# Altium integrated library Infineon_Power_Supply_Voltage_Regulator.IntLib: 346 symbols (part 3 of 16)
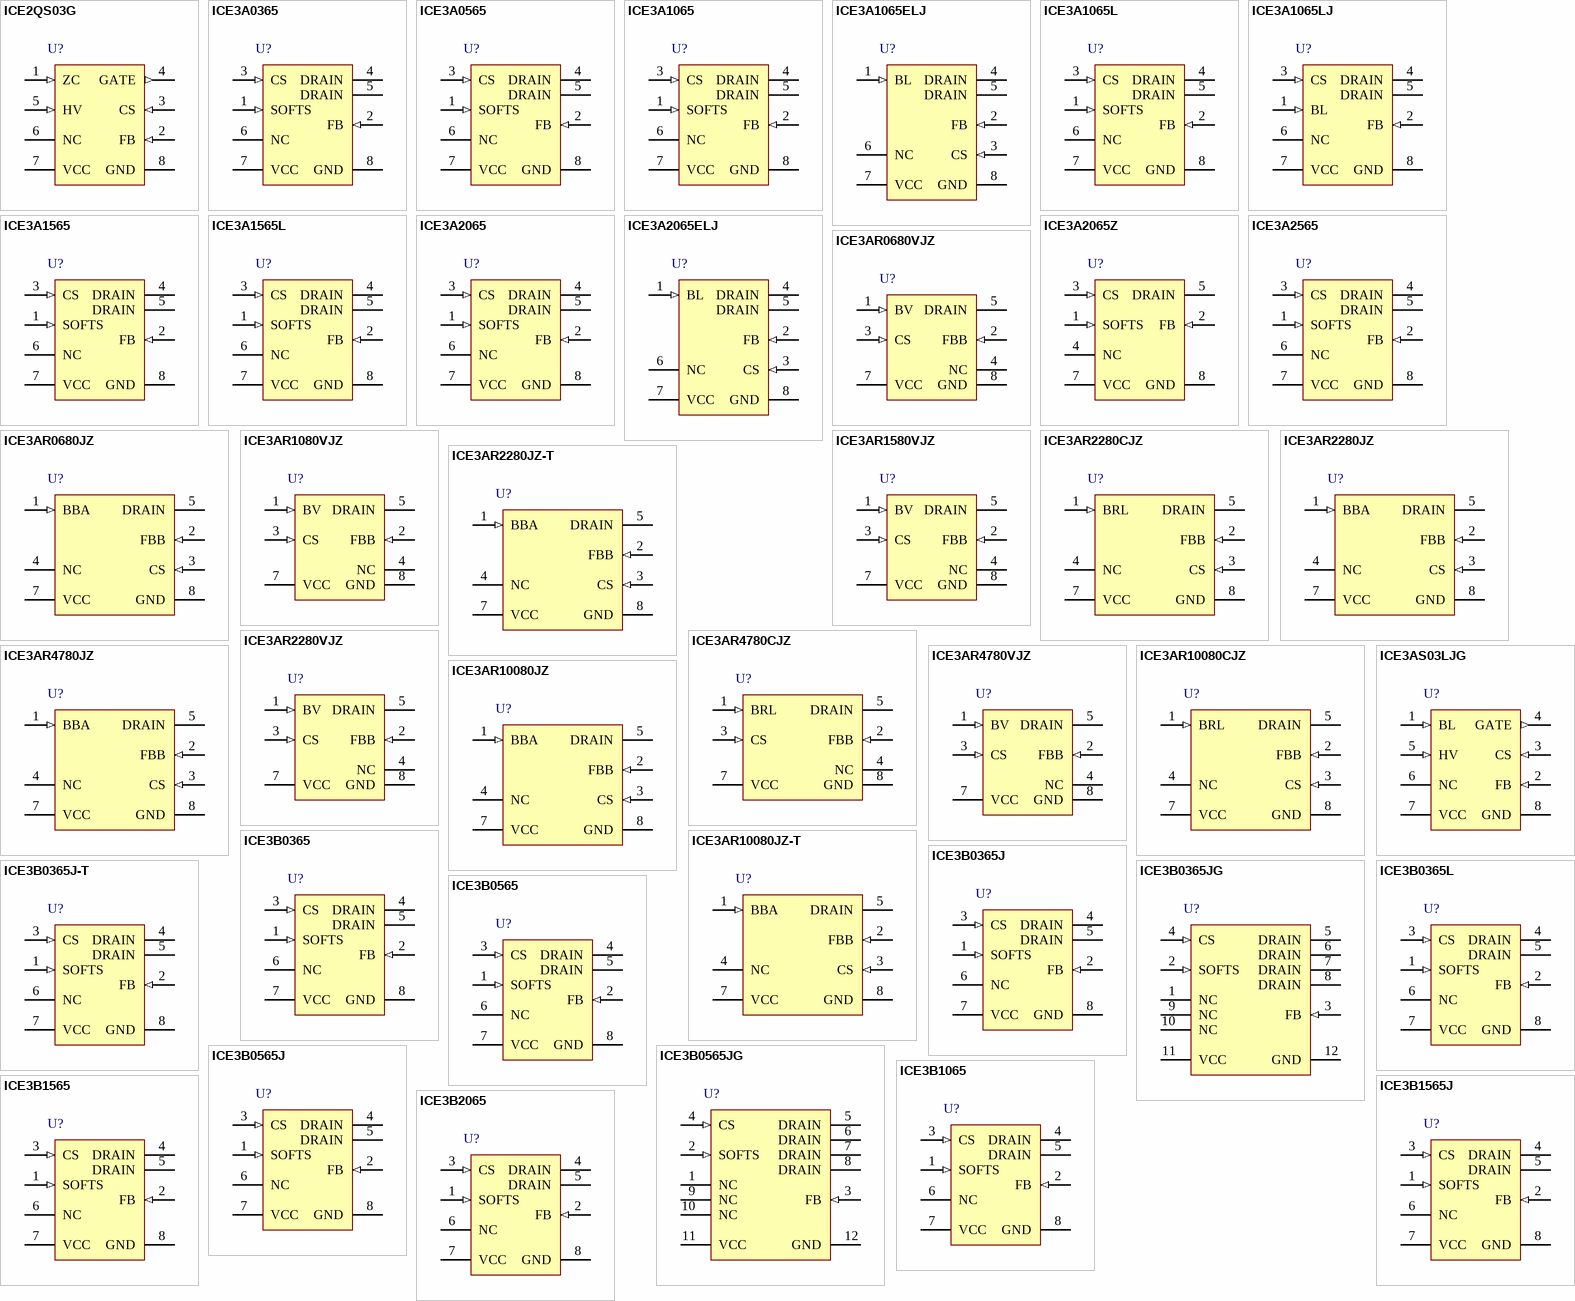
[diagram p11: symbols ICE2QS03G to ICE3B2065]

## ICE3AR2280CJZ
designator U?
Off-Line SMPS Current Mode Controller with Integrated 800 V CoolMOS and Startup Cell (Brownout & CCM), 10.5 to 24.7 V, -25 to 130 degC, PG-DIP-7-1, Tube, Green; Manufacturer: Infineon; PartNumber: ICE3AR2280CJZ; ESD Protection (max): 2 kV; Frequency ( f ) Range: 100 kHz fixed; Green Product: Lead Free; ICC (typ): 3.4 mA; ID (max): 1.5 A; PIN (max): 28 W; RDS (on) (typ): 2.26 Ohm; RthJA (max): 96 K/W; tf (typ): 30 ns; VCC (max): 24.7 V; VCC (min): 10.5 V; VDS (max): 800 V; DatasheetVersion: Rev. 2.0; PackageVersion: Rev. 02, 07/2011; PackageReference: PG-DIP-7-1; PackageDescription: 7-Pin Plastic (Green) Dual In-Line Package, 9.44 x 6.35 mm Body, 2.54 mm Pitch; tr (typ): 30 ns; Mounting Technology: Through Hole; ComponentLink1Description: Manufacturer URL; ComponentLink1URL: http://www.infineon.com/; ComponentLink2Description: Datasheet; ComponentLink2URL: http://www.infineon.com/dgdl/Datasheet_ICE3AR2280CJZ_V20_11Jan2012.pdf?folderId=db3a30431f848401011fcbf221ff04c3&fileId=db3a3043345a30bc013489117f87344a; ComponentLink3Description: Package Specification; ComponentLink3URL: http://www.infineon.com/dgdl/Datasheet_ICE3BR0680JZ_V21a_11Jan2012.pdf?folderId=db3a30431f848401011fcbf221ff04c3&fileId=db3a304329a0f6ee0129e8b5bf735b64
footprint INF-PG-DIP-7-1_A (DIP, 7-Leads, Body 9.44x6.35mm, Pitch 2.54mm)
pins: 1 BRL (in) "Brownout, fast AC Reset & Latch enable", 2 FBB (in) "Feedback & Burst entry/exit control", 3 CS (in) "Current Sense/800V CoolMOS(R) Source", 4 NC "not connected", 5 DRAIN (power) "800V CoolMOS(R) Drain", 7 VCC (power) "Controller Supply Voltage", 8 GND (power) "Controller Ground"

## ICE3AR2280JZ
designator U?
Off-Line SMPS Current Mode Controller with Integrated 800 V CoolMOS and Startup Cell (Brownout & Frequency Jitter), 10.5 to 25 V, -25 to 130 degC, PG-DIP-7-1, Tube, Green; Manufacturer: Infineon; PartNumber: ICE3AR2280JZ; ESD Protection (max): 2 kV; Frequency ( f ) Range: 100 kHz (fixed); Green: TRUE; Green Product: Lead Free; ICC (typ): 3.4 mA; ID (max): 1.5 A; PIN (max): 28 W; RDS (on) (typ): 2.26 Ohm; RthJA (max): 96 K/W; tf (typ): 30 ns; VCC (max): 25 V; VCC (min): 10.5 V; VDS (max): 800 V; DatasheetVersion: Rev. 2.1a; PackageVersion: Rev. 02, 07/2011; PackageReference: PG-DIP-7-1; PackageDescription: 7-Pin Plastic (Green) Dual In-Line Package, 9.44 x 6.35 mm Body, 2.54 mm Pitch; Supplier 1: Mouser; Supplier Part Number 1: 726-ICE3AR2280JZ; tr (typ): 30 ns; Mounting Technology: Through Hole; ComponentLink1Description: Manufacturer URL; ComponentLink1URL: http://www.infineon.com/; ComponentLink2Description: Datasheet; ComponentLink2URL: http://www.infineon.com/dgdl/Datasheet_ICE3AR2280JZ_V21a_11Jan2012.pdf?folderId=db3a304412b407950112b4182a3d24f8&fileId=db3a3043284aacd801288a42141f2ad1; ComponentLink3Description: Package Specification; ComponentLink3URL: http://www.infineon.com/dgdl/Datasheet_ICE3BR0680JZ_V21a_11Jan2012.pdf?folderId=db3a30431f848401011fcbf221ff04c3&fileId=db3a304329a0f6ee0129e8b5bf735b64
footprint INF-PG-DIP-7-1_A (DIP, 7-Leads, Body 9.44x6.35mm, Pitch 2.54mm)
pins: 1 BBA (in) "Brownout, extended Blanking time & Auto-restart enable", 2 FBB (in) "Feedback & Burst entry/exit control", 3 CS (in) "Current Sense/800V CoolMOS(R) Source", 4 NC "not connected", 5 DRAIN (power) "800V CoolMOS(R) Drain", 7 VCC (power) "Controller Supply Voltage", 8 GND (power) "Controller Ground"

## ICE3AR2280JZ-T
designator U?
Off-Line SMPS Current Mode Controller, -40 to 130 degC, PG-DIP-7-1, Tube, Green; Manufacturer: Infineon; PartNumber: ICE3AR2280JZ-T; Green: TRUE; ID (max): 1.5 A; PIN (max): 28 W; RDS (on) (typ): 2.26 Ohm; VCC (max): 25 V; VCC (min): 10.5 V; VDS (max): 800 V; DatasheetVersion: Rev. 2.0; PackageVersion: Rev. 02, 07/2011; PackageReference: PG-DIP-7-1; PackageDescription: 7-Pin Plastic (Green) Dual In-Line Package, 9.44 x 6.35 mm Body, 2.54 mm Pitch; Supplier 1: Mouser; Supplier Part Number 1: N/A; Halogen-free: TRUE; Packing: Tube; Mounting Technology: Through Hole; ComponentLink1Description: Manufacturer URL; ComponentLink1URL: http://www.infineon.com/; ComponentLink2Description: Datasheet; ComponentLink2URL: http://www.infineon.com/dgdl/Datasheet_ICE3AR2280JZ-T_V2.0_20Mar2013.pdf?folderId=db3a30433dd36866013dd41eec4723fc&fileId=db3a30433dd42dcf013dd4f9421f01ca; ComponentLink3Description: Package Specification; ComponentLink3URL: http://www.infineon.com/dgdl/Datasheet_ICE3BR0680JZ_V21a_11Jan2012.pdf?folderId=db3a30431f848401011fcbf221ff04c3&fileId=db3a304329a0f6ee0129e8b5bf735b64
footprint INF-PG-DIP-7-1_A (DIP, 7-Leads, Body 9.44x6.35mm, Pitch 2.54mm)
pins: 1 BBA (in) "Brownout, extended Blanking time & Auto-restart enable", 2 FBB (in) "Feedback & Burst entry/exit control", 3 CS (in) "Current Sense/800V CoolMOS(R) Source", 4 NC "not connected", 5 DRAIN (power) "800V CoolMOS(R) Drain", 7 VCC (power) "Controller Supply Voltage", 8 GND (power) "Controller Ground"

## ICE3AR2280VJZ
designator U?
Off-Line SMPS Current Mode Controller with Integrated 800 V CoolMOS(TM) and Startup Cell (Input OVP & Frequency Jitter), 10.5 to 25 V, -40 to 130 degC, PG-DIP-7, Tube, Green; Manufacturer: Infineon; PartNumber: ICE3AR2280VJZ; ESD Protection (max): 2 kV; Frequency ( f ) Range: 100 kHz Fixed; Green: TRUE; Green Product: Lead Free; ICC (typ): 3.4 mA; PIN (max): 28 W; RthJA (max): 96 K/W; tf (typ): 30 ns; VCC (max): 25 V; VCC (min): 10.5 V; VDS (max): 800 V; DatasheetVersion: Rev. 2.1; PackageVersion: Rev. 02, 07/2011; PackageReference: PG-DIP-7-1; PackageDescription: 7-Pin Plastic (Green) Dual In-Line Package, 9.44 x 6.35 mm Body, 2.54 mm Pitch; Supplier 1: Mouser; Supplier Part Number 1: N/A; Halogen-free: TRUE; Mounting: THT; Packing: Tube; Tolerance: TRUE; tr (typ): 30 ns; Mounting Technology: Through Hole; ComponentLink1Description: Manufacturer URL; ComponentLink1URL: http://www.infineon.com/; ComponentLink2Description: Datasheet; ComponentLink2URL: http://www.infineon.com/dgdl?folderId=db3a30433dd36866013dd41eec4723fc&fileId=db3a304341e0aed00141ffe590b53061; ComponentLink3Description: Package Specification; ComponentLink3URL: http://www.infineon.com/dgdl/Datasheet_ICE2QR4765Z_V21_20110830.pdf?folderId=db3a304412b407950112b408e8c90004&fileId=db3a304330046413013048a5435f51d2
footprint INF-PG-DIP-7-1_A (DIP, 7-Leads, Body 9.44x6.35mm, Pitch 2.54mm)
pins: 1 BV (in) "extended Blanking time and input OVP", 2 FBB (in) "Feedback & Burst entry/exit control", 3 CS (in) "Current Sense/ 800V CoolMOS(TM) Source", 4 NC "not connected", 5 DRAIN (power) "800V CoolMOS(TM) Drain", 7 VCC (power) "Controller Supply Voltage", 8 GND (power) "Controller Ground"

## ICE3AR4780CJZ
designator U?
Off-Line SMPS Current Mode Controller with Integrated 800 V CoolMOS(TM) and Startup Cell (Brownout & CCM), 10.5 to 24.7 V, -25 to 130 degC, PG-DIP-7, Tube, Green; Manufacturer: Infineon; PartNumber: ICE3AR4780CJZ; ESD Protection (max): 2 kV; Frequency ( f ) Range: 100 kHz Fixed; Green: TRUE; Green Product: Lead Free; ICC (typ): 3.4 mA; PIN (max): 20 W; RthJA (max): 96 K/W; tf (typ): 30 ns; VCC (max): 24.7; VCC (min): 10.5 V; VDS (max): 800 V; DatasheetVersion: Rev. 2.0; PackageVersion: Rev. 02, 07/2011; PackageReference: PG-DIP-7-1; PackageDescription: 7-Pin Plastic (Green) Dual In-Line Package, 9.44 x 6.35 mm Body, 2.54 mm Pitch; Halogen-free: TRUE; Mounting: THT; Packing: Tube; Tolerance: TRUE; tr (typ): 30 ns; Mounting Technology: Through Hole; ComponentLink1Description: Manufacturer URL; ComponentLink1URL: http://www.infineon.com/; ComponentLink2Description: Datasheet; ComponentLink2URL: http://www.infineon.com/dgdl?folderId=db3a30433dd36866013dd41eec4723fc&fileId=db3a30433ff796e701401495529c4444; ComponentLink3Description: Package Specification; ComponentLink3URL: http://www.infineon.com/dgdl/Datasheet_ICE2QR4765Z_V21_20110830.pdf?folderId=db3a304412b407950112b408e8c90004&fileId=db3a304330046413013048a5435f51d2
footprint INF-PG-DIP-7-1_A (DIP, 7-Leads, Body 9.44x6.35mm, Pitch 2.54mm)
pins: 1 BRL (in) "Brownout, fast AC Reset and Latch enable", 2 FBB (in) "Feedback and Burst entry/exit control", 3 CS (in) "Current Sense/ 800V CoolMOS(R) Source", 4 NC "not connected", 5 DRAIN (power) "800V CoolMOS(R) Drain", 7 VCC (power) "Controller Supply Voltage", 8 GND (power) "Controller Ground"

## ICE3AR4780JZ
designator U?
Off-Line SMPS Current Mode Controller with Integrated 800 V CoolMOS and Startup Cell (Brownout & Frequency Jitter), 10.5 to 25 V, -25 to 130 degC, PG-DIP-7-1; Manufacturer: Infineon; PartNumber: ICE3AR4780JZ; ESD Protection (max): 2 kV; Frequency ( f ) Range: 100 Hz fixed; Green Product: Lead Free; ICC (typ): 3 mA; ID (max): 0.58 A; PIN (max): 20 W; RDS (on) (typ): 4.7 Ohm; RthJA (max): 96 K/W; tf (typ): 30 ns; VCC (max): 25 V; VCC (min): 10.5 V; VDS (max): 800 V; DatasheetVersion: Rev. 2.1a; PackageVersion: Rev. 02, 07/2011; PackageReference: PG-DIP-7-1; PackageDescription: 7-Pin Plastic (Green) Dual In-Line Package, 9.44 x 6.35 mm Body, 2.54 mm Pitch; Supplier 1: Mouser; Supplier Part Number 1: 726-ICE3AR4780JZ; tr (typ): 30 ns; Mounting Technology: Through Hole; ComponentLink1Description: Manufacturer URL; ComponentLink1URL: http://www.infineon.com/; ComponentLink2Description: Datasheet; ComponentLink2URL: http://www.infineon.com/dgdl/Datasheet_ICE3AR4780JZ_V21a_11Jan2012.pdf?folderId=db3a304412b407950112b408e8c90004&fileId=db3a30432e5d3808012e6ef78ce45fc0; ComponentLink3Description: Package Specification; ComponentLink3URL: http://www.infineon.com/dgdl/Datasheet_ICE3BR0680JZ_V21a_11Jan2012.pdf?folderId=db3a30431f848401011fcbf221ff04c3&fileId=db3a304329a0f6ee0129e8b5bf735b64
footprint INF-PG-DIP-7-1_A (DIP, 7-Leads, Body 9.44x6.35mm, Pitch 2.54mm)
pins: 1 BBA (in) "Brownout, extended Blanking time & Auto-restart enable", 2 FBB (in) "Feedback & Burst entry/exit control", 3 CS (in) "Current Sense/800V CoolMOS(R) Source", 4 NC "not connected", 5 DRAIN (power) "800V CoolMOS(R) Drain", 7 VCC (power) "Controller Supply Voltage", 8 GND (power) "Controller Ground"

## ICE3AR4780VJZ
designator U?
Off-Line SMPS Current Mode Controller with Integrated 800 V CoolMOS(TM) and Startup Cell (Input OVP & Frequency Jitter), 10.5 to 25 V, -40 to 130 degC, PG-DIP-7, Tube, Green; Manufacturer: Infineon; PartNumber: ICE3AR4780VJZ; ESD Protection (max): 2 kV; Frequency ( f ) Range: 100 kHz Fixed; Green: TRUE; Green Product: Lead Free; ICC (typ): 3 mA; PIN (max): 20 W; RthJA (max): 96 K/W; tf (typ): 30 ns; VCC (max): 25 V; VCC (min): 10.5 V; VDS (max): 800 V; DatasheetVersion: Rev. 2.1; PackageVersion: Rev. 02, 07/2011; PackageReference: PG-DIP-7-1; PackageDescription: 7-Pin Plastic (Green) Dual In-Line Package, 9.44 x 6.35 mm Body, 2.54 mm Pitch; Supplier 1: Mouser; Supplier Part Number 1: N/A; Halogen-free: TRUE; Mounting: THT; Packing: Tube; Tolerance: TRUE; tr (typ): 30 ns; Mounting Technology: Through Hole; ComponentLink1Description: Manufacturer URL; ComponentLink1URL: http://www.infineon.com/; ComponentLink2Description: Datasheet; ComponentLink2URL: http://www.infineon.com/dgdl?folderId=db3a30433dd36866013dd41eec4723fc&fileId=db3a304341e0aed00141ffe81b683068; ComponentLink3Description: Package Specification; ComponentLink3URL: http://www.infineon.com/dgdl/Datasheet_ICE2QR4765Z_V21_20110830.pdf?folderId=db3a304412b407950112b408e8c90004&fileId=db3a304330046413013048a5435f51d2
footprint INF-PG-DIP-7-1_A (DIP, 7-Leads, Body 9.44x6.35mm, Pitch 2.54mm)
pins: 1 BV (in) "extended Blanking time and input OVP", 2 FBB (in) "Feedback & Burst entry/exit control", 3 CS (in) "Current Sense/ 800V CoolMOS(TM) Source", 4 NC "not connected", 5 DRAIN (power) "800V CoolMOS(TM) Drain", 7 VCC (power) "Controller Supply Voltage", 8 GND (power) "Controller Ground"

## ICE3AR10080CJZ
designator U?
Off-Line SMPS Current Mode Controller with Integrated 800 V CoolMOS and Startup Cell (Brownout & CCM), 10.5 to 24.7 V, -25 to 130 degC, PG-DIP-7-1, Tube, Green; Manufacturer: Infineon; PartNumber: ICE3AR10080CJZ; ESD Protection (max): 2 kV; Frequency ( f ) Range: 100 kHz fixed; Green Product: Lead Free; ICC (typ): 3 mA; ID (max): 0.44 A; PIN (max): 15 W; RDS (on) (typ): 10 Ohm; RthJA (max): 96 K/W; tf (typ): 30 ns; VCC (max): 24.7 V; VCC (min): 10.5 V; VDS (max): 800 V; DatasheetVersion: Rev. 2.0; PackageVersion: Rev. 02, 07/2011; PackageReference: PG-DIP-7-1; PackageDescription: 7-Pin Plastic (Green) Dual In-Line Package, 9.44 x 6.35 mm Body, 2.54 mm Pitch; tr (typ): 30 ns; Mounting Technology: Through Hole; ComponentLink1Description: Manufacturer URL; ComponentLink1URL: http://www.infineon.com/; ComponentLink2Description: Datasheet; ComponentLink2URL: http://www.infineon.com/dgdl/Datasheet_ICE3AR10080CJZ_V20_11Jan2012.pdf?folderId=db3a30431f848401011fcbf221ff04c3&fileId=db3a3043345a30bc0134891d7624344f; ComponentLink3Description: Package Specification; ComponentLink3URL: http://www.infineon.com/dgdl/Datasheet_ICE3BR0680JZ_V21a_11Jan2012.pdf?folderId=db3a30431f848401011fcbf221ff04c3&fileId=db3a304329a0f6ee0129e8b5bf735b64
footprint INF-PG-DIP-7-1_A (DIP, 7-Leads, Body 9.44x6.35mm, Pitch 2.54mm)
pins: 1 BRL (in) "Brownout, fast AC Reset & Latch enable", 2 FBB (in) "Feedback & Burst entry/exit control", 3 CS (in) "Current Sense/800V CoolMOS(R) Source", 4 NC "not connected", 5 DRAIN (power) "800V CoolMOS(R) Drain", 7 VCC (power) "Controller Supply Voltage", 8 GND (power) "Controller Ground"

## ICE3AR10080JZ
designator U?
Off-Line SMPS Current Mode Controller with Integrated 800 V CoolMOS and Startup Cell (Brownout & Frequency Jitter), 10.5 to 25 V, -25 to 130 degC, PG-DIP-7-1, Tube, Green; Manufacturer: Infineon; PartNumber: ICE3AR10080JZ; ESD Protection (max): 2 kV; Frequency ( f ) Range: 100 kHz fixed; Green: TRUE; Green Product: Lead Free; ICC (typ): 3 mA; ID (max): 0.44 A; PIN (max): 15 W; RDS (on) (typ): 10 Ohm; RthJA (max): 96 K/W; tf (typ): 30 ns; VCC (max): 25 V; VCC (min): 10.5 V; VDS (max): 800 V; DatasheetVersion: Rev. 2.2a; PackageVersion: Rev. 02, 07/2011; PackageReference: PG-DIP-7-1; PackageDescription: 7-Pin Plastic (Green) Dual In-Line Package, 9.44 x 6.35 mm Body, 2.54 mm Pitch; Supplier 1: Mouser; Supplier Part Number 1: 726-ICE3AR10080JZ; Halogen-free: TRUE; tr (typ): 30 ns; Mounting Technology: Through Hole; ComponentLink1Description: Manufacturer URL; ComponentLink1URL: http://www.infineon.com/; ComponentLink2Description: Datasheet; ComponentLink2URL: http://www.infineon.com/dgdl/Datasheet_ICE3AR10080JZ_V22a_11Jan2012.pdf?folderId=db3a304412b407950112b408e8c90004&fileId=db3a3043324cae8c01326fade0414605; ComponentLink3Description: Package Specification; ComponentLink3URL: http://www.infineon.com/dgdl/Datasheet_ICE3BR0680JZ_V21a_11Jan2012.pdf?folderId=db3a30431f848401011fcbf221ff04c3&fileId=db3a304329a0f6ee0129e8b5bf735b64
footprint INF-PG-DIP-7-1_A (DIP, 7-Leads, Body 9.44x6.35mm, Pitch 2.54mm)
pins: 1 BBA (in) "Brownout, extended Blanking time & Auto-restart enable", 2 FBB (in) "Feedback & Burst entry/exit control", 3 CS (in) "Current Sense/800V CoolMOS(R) Source", 4 NC "not connected", 5 DRAIN (power) "800V CoolMOS(R) Drain", 7 VCC (power) "Controller Supply Voltage", 8 GND (power) "Controller Ground"

## ICE3AR10080JZ-T
designator U?
Off-Line SMPS Current Mode Controller, -40 to 130 degC, PG-DIP-7-1, Tube, Green; Manufacturer: Infineon; PartNumber: ICE3AR10080JZ-T; Green: TRUE; ID (max): 0.44 A; PIN (max): 15 W; RDS (on) (typ): 10 Ohm; VCC (max): 25 V; VCC (min): 10.5 V; VDS (max): 800 V; DatasheetVersion: Rev. 2.0; PackageVersion: Rev. 02, 07/2011; PackageReference: PG-DIP-7-1; PackageDescription: 7-Pin Plastic (Green) Dual In-Line Package, 9.44 x 6.35 mm Body, 2.54 mm Pitch; Supplier 1: Mouser; Supplier Part Number 1: N/A; Halogen-free: TRUE; Packing: Tube; Mounting Technology: Through Hole; ComponentLink1Description: Manufacturer URL; ComponentLink1URL: http://www.infineon.com/; ComponentLink2Description: Datasheet; ComponentLink2URL: http://www.infineon.com/dgdl/Datasheet_ICE3AR10080JZ-T_V2.0_20Mar2013.pdf?folderId=db3a30433dd36866013dd41eec4723fc&fileId=db3a30433dd42dcf013dd4fb8c1901d5; ComponentLink3Description: Package Specification; ComponentLink3URL: http://www.infineon.com/dgdl/Datasheet_ICE3BR0680JZ_V21a_11Jan2012.pdf?folderId=db3a30431f848401011fcbf221ff04c3&fileId=db3a304329a0f6ee0129e8b5bf735b64
footprint INF-PG-DIP-7-1_A (DIP, 7-Leads, Body 9.44x6.35mm, Pitch 2.54mm)
pins: 1 BBA (in) "Brownout, extended Blanking time & Auto-restart enable", 2 FBB (in) "Feedback & Burst entry/exit control", 3 CS (in) "Current Sense/800V CoolMOS(R) Source", 4 NC "not connected", 5 DRAIN (power) "800V CoolMOS(R) Drain", 7 VCC (power) "Controller Supply Voltage", 8 GND (power) "Controller Ground"

## ICE3AS03LJG
designator U?
Off-Line SMPS Current Mode Controller with Integrated 500 V Startup Cell ( Latched and Frequency Jitter Mode ), -25 to 130 degC, PG-DSO-8; Manufacturer: Infineon; PartNumber: ICE3AS03LJG; Green: FALSE; ICC (max): 2.5 mA; Output: MOSFET Gate Driver; VCC (max): 25 V; VCC (min): 10.5 V; DatasheetVersion: Rev. 2.0; PackageReference: PG-DSO-8_B; PackageDescription: 8-Pin Plastic (Green) Dual Small Outline Package, 4.91 x 3.96 mm Body, 1.27 mm Pitch; Supplier 1: Mouser; Supplier Part Number 1: 726-ICE3AS03LJG; Supplier 2: Digi-Key; Supplier Part Number 2: ICE3AS03LJG-ND; Halogen-free: FALSE; Mounting Technology: Surface Mount; ComponentLink1Description: Manufacturer URL; ComponentLink1URL: http://www.infineon.com/; ComponentLink2Description: Datasheet; ComponentLink2URL: http://www.infineon.com/dgdl/Datasheet_ICE3AS03LJG_3+Jul+2009-V20.pdf?folderId=db3a304412b407950112b409ae510341&fileId=db3a30432239cccd01229cd59dfe56e2; ComponentLink3Description: Package Specification; ComponentLink3URL: http://www.infineon.com/dgdl/Datasheet_ICE1HS01G_v2.0_20090824.pdf?folderId=db3a3043156fd5730115da1adffb1528&fileId=db3a304327b8975001281ab6d8201a99
footprint INF-PG-DSO-8_B_N (SOP, 8-Leads, Body 4.91x3.96mm, Pitch 1.27mm, IPC Medium Density)
footprint INF-PG-DSO-8_B_L (SOP, 8-Leads, Body 4.91x3.96mm, Pitch 1.27mm, IPC High Density)
footprint INF-PG-DSO-8_B_M (SOP, 8-Leads, Body 4.91x3.96mm, Pitch 1.27mm, IPC Low Density)
pins: 1 BL (in) "extended Blanking and Latch off enable", 2 FB (in) "Feedback", 3 CS (in) "Current Sense", 4 GATE (out) "Gate driver output", 5 HV (in) "High Voltage input", 6 NC "Not Connected", 7 VCC (power) "Controller Supply Voltage", 8 GND (power) "Controller Ground"

## ICE3B0365
designator U?
Off-Line SMPS Current Mode Controller, -25 to 130 degC, PG-DIP-8, Tube, Green; Manufacturer: Infineon; PartNumber: ICE3B0365; Green: TRUE; ID (max): 0.3 A; PIN (max): 10 W; RDS (on) (typ): 6.45 Ohm; VCC (max): 21 V; VCC (min): 8.5 V; VDS (max): 650 V; DatasheetVersion: Rev. 2.3; PackageVersion: Rev. 02, 05/2012; PackageReference: PG-DIP-8; PackageDescription: 8-Pin Plastic (Green) Dual In-Line Package, 9.44 x 6.35 mm Body, 2.54 mm Pitch; Supplier 1: Mouser; Supplier Part Number 1: 726-ICE3B0365; Supplier 2: Digi-Key; Supplier Part Number 2: ICE3B0365-ND; Halogen-free: TRUE; Packing: Tube; Mounting Technology: Through Hole; ComponentLink1Description: Manufacturer URL; ComponentLink1URL: http://www.infineon.com/; ComponentLink2Description: Datasheet; ComponentLink2URL: http://www.infineon.com/dgdl/Datasheet_CoolSET-F3_v22_30Aug2011.pdf?folderId=db3a304412b407950112b4182a3d24f8&fileId=db3a304412b407950112b428f6ba3f30; ComponentLink3Description: Package Specification; ComponentLink3URL: http://www.infineon.com/dgdl/Datasheet_CoolSET-F3_v22_30Aug2011.pdf?folderId=db3a304412b407950112b4182a3d24f8&fileId=db3a304412b407950112b428f6ba3f30
footprint INF-PG-DIP-8_A (DIP, 8-Leads, Body 9.435x7.875mm, Pitch 2.54mm)
pins: 1 SOFTS (in) "Soft-Start", 2 FB (in) "Feedback", 3 CS (in) "Current Sense/650V1) Depl. CoolMOS(TM) Source", 4 DRAIN (power) "650V1) Depl. CoolMOS(TM) Drain", 5 DRAIN (power) "650V1) Depl. CoolMOS(TM) Drain", 6 NC "Not Connected", 7 VCC (power) "Controller Supply Voltage", 8 GND (power) "Controller Ground"

## ICE3B0365J
designator U?
Off-Line SMPS Current Mode Controller with Integrated 650 V CoolMOS and Startup Cell (Frequency Jitter Mode), 10.3 to 26 V, -25 to 130 degC, PG-DIP-8, Tube, Green; Manufacturer: Infineon; PartNumber: ICE3B0365J; ESD Protection (max): 2 kV; Frequency ( f ) Range: 67 kHz fixed; Green: TRUE; Green Product: Lead Free; ICC (typ): 2.5 mA; ID (max): 0.3 A; PIN (max): 10 W; RDS (on) (typ): 6.45 Ohm; RthJA (max): 90 K/W; tf (typ): 30 ns; VCC (max): 26 V; VCC (min): 10.3 V; VDS (max): 650 V; DatasheetVersion: Rev. 2.9; PackageVersion: Rev. 02, 05/2012; PackageReference: PG-DIP-8; PackageDescription: 8-Pin Plastic (Green) Dual In-Line Package, 9.44 x 6.35 mm Body, 2.54 mm Pitch; Supplier 1: Mouser; Supplier Part Number 1: 726-ICE3B0365J; Supplier 2: Newark; Supplier Part Number 2: 78X5177; Supplier 3: Farnell; Supplier Part Number 3: 2432501; Supplier 4: Digi-Key; Supplier Part Number 4: ICE3B0365J-ND; Packing: Tube; tr (typ): 30 ns; Mounting Technology: Through Hole; ComponentLink1Description: Manufacturer URL; ComponentLink1URL: http://www.infineon.com/; ComponentLink2Description: Datasheet; ComponentLink2URL: http://www.infineon.com/dgdl/Datasheet_CoolSET-F3J_ICE3Bxx65J_v28_23Aug2012.pdf?folderId=db3a3043394427e40139530c0fe07ca3&fileId=db3a3043394427e4013953109b207cb2; ComponentLink3Description: Package Specification; ComponentLink3URL: http://www.infineon.com/dgdl/Datasheet_CoolSET-F3_v22_30Aug2011.pdf?folderId=db3a304412b407950112b4182a3d24f8&fileId=db3a304412b407950112b428f6ba3f30
footprint INF-PG-DIP-8_A (DIP, 8-Leads, Body 9.435x7.875mm, Pitch 2.54mm)
pins: 1 SOFTS (in) "Soft-Start", 2 FB (in) "FeedBack", 3 CS (in) "Current Sense/650V Depl CoolMOS(TM) Source", 4 DRAIN (power) "650V Depl CoolMOS(TM) Drain", 5 DRAIN (power) "650V Depl CoolMOS(TM) Drain", 6 NC "Not connected", 7 VCC (power) "Controller Supply Voltage", 8 GND (power) "Controller GrouND"

## ICE3B0365J-T
designator U?
Off-Line SMPS Current Mode Controller, -40 to 130 degC, PG-DIP-8, Tube, Green; Manufacturer: Infineon; PartNumber: ICE3B0365J-T; Green: TRUE; ID (max): 0.3 A; PIN (max): 10 W; RDS (on) (typ): 6.45 Ohm; VCC (max): 26 V; VCC (min): 10.3 V; VDS (max): 650 V; DatasheetVersion: Rev. 2.0; PackageVersion: Rev. 02, 05/2012; PackageReference: PG-DIP-8; PackageDescription: 8-Pin Plastic (Green) Dual In-Line Package, 9.44 x 6.35 mm Body, 2.54 mm Pitch; Supplier 1: Mouser; Supplier Part Number 1: N/A; Halogen-free: TRUE; Packing: Tube; Mounting Technology: Through Hole; ComponentLink1Description: Manufacturer URL; ComponentLink1URL: http://www.infineon.com/; ComponentLink2Description: Datasheet; ComponentLink2URL: http://www.infineon.com/dgdl/Datasheet_ICE3B0365J-T_v2.0_20Mar2013.pdf?folderId=db3a30433dd36866013dd41eec4723fc&fileId=db3a30433dd42dcf013dd500c8c701f5; ComponentLink3Description: Package Specification; ComponentLink3URL: http://www.infineon.com/dgdl/Datasheet_CoolSET-F3_v22_30Aug2011.pdf?folderId=db3a304412b407950112b4182a3d24f8&fileId=db3a304412b407950112b428f6ba3f30
footprint INF-PG-DIP-8_A (DIP, 8-Leads, Body 9.435x7.875mm, Pitch 2.54mm)
pins: 1 SOFTS (in) "Soft-Start", 2 FB (in) "Feedback", 3 CS (in) "Current Sense/650V CoolMOS(R) Source", 4 DRAIN (power) "650V CoolMOS(R) Source", 5 DRAIN (power) "650V CoolMOS(R) Source", 6 NC "Not Connected", 7 VCC (power) "Controller Supply Voltage", 8 GND (power) "Controller Ground"

## ICE3B0365JG
designator U?
Off-Line SMPS Current Mode Controller with Integrated 650 V Startup Cell / Depletion CoolMOS, 10.3 to 26 V, -25 to 130 degC, PG-DSO-16/12, Reel, Green; Manufacturer: Infineon; PartNumber: ICE3B0365JG; ESD Protection (max): 2 kV; Frequency ( f ) Range: 67 kHz fixed; Green: TRUE; Green Product: Lead Free; ICC (typ): 2.5 mA; ID (max): 0.3 A; PIN (max): 10 W; RDS (on) (typ): 6.45 Ohm; RthJA (max): 110 K/W; tf (typ): 30 ns; VCC (max): 26 V; VCC (min): 10.3 V; VDS (max): 650 V; DatasheetVersion: Rev. 2.0; PackageReference: PG-DSO-16_12; PackageDescription: 16-Pin Plastic (Green) Dual Small Outline Package, 9.9 x 3.9 mm Body, 1.27 mm Pitch; Supplier 1: Mouser; Supplier Part Number 1: 726-ICE3B0365JG; Supplier 2: Digi-Key; Supplier Part Number 2: ICE3B0365JG-ND; Halogen-free: TRUE; Packing: Reel; tr (typ): 30 ns; Mounting Technology: Surface Mount; ComponentLink1Description: Manufacturer URL; ComponentLink1URL: http://www.infineon.com/; ComponentLink2Description: Datasheet; ComponentLink2URL: http://www.infineon.com/dgdl/Datasheet_CoolSET-F3JG_v2_0_14Nov2006.pdf?folderId=db3a304412b407950112b4182a3d24f8&fileId=db3a304412b407950112b428f96f3f62; ComponentLink3Description: Package Specification; ComponentLink3URL: http://www.infineon.com/dgdl/Datasheet_ICE2QR0665G_20110704_R20.pdf?folderId=db3a304412b407950112b408e8c90004&fileId=db3a304330f686060130fd2a8e477ecb
footprint INF-PG-DSO-16_12_N (SOP, 16-Leads, Body 9.9x3.9mm, Pitch 1.27mm, IPC Medium Density)
footprint INF-PG-DSO-16_12_L (SOP, 16-Leads, Body 9.9x3.9mm, Pitch 1.27mm, IPC High Density)
footprint INF-PG-DSO-16_12_M (SOP, 16-Leads, Body 9.9x3.9mm, Pitch 1.27mm, IPC Low Density)
pins: 1 NC "Not Connected", 2 SOFTS (in) "Soft-Start", 3 FB (in) "Feedback", 4 CS (in) "Current Sense/650V Depl. CoolMOS(TM) Source", 5 DRAIN (power) "650V Depl. CoolMOS(TM) Drain", 6 DRAIN (power) "650V Depl. CoolMOS(TM) Drain", 7 DRAIN (power) "650V Depl. CoolMOS(TM) Drain", 8 DRAIN (power) "650V Depl. CoolMOS(TM) Drain", 9 NC "Not Connected", 10 NC "Not Connected", 11 VCC (power) "Controller Supply Voltage", 12 GND (power) "Controller Ground"

## ICE3B0365L
designator U?
Off-Line SMPS Current Mode Controller, -25 to 130 degC, PG-DIP-8, Tube, Green; Manufacturer: Infineon; PartNumber: ICE3B0365L; Green: TRUE; ID (max): 0.3 A; PIN (max): 10 W; RDS (on) (typ): 6.45 Ohm; VCC (max): 21 V; VCC (min): 8.5 V; VDS (max): 650 V; DatasheetVersion: Rev. 2.1; PackageVersion: Rev. 02, 05/2012; PackageReference: PG-DIP-8; PackageDescription: 8-Pin Plastic (Green) Dual In-Line Package, 9.44 x 6.35 mm Body, 2.54 mm Pitch; Supplier 1: Mouser; Supplier Part Number 1: N/A; Supplier 2: Digi-Key; Supplier Part Number 2: ICE3B0365L-ND; Halogen-free: FALSE; Packing: Tube; Mounting Technology: Through Hole; ComponentLink1Description: Manufacturer URL; ComponentLink1URL: http://www.infineon.com/; ComponentLink2Description: Datasheet; ComponentLink2URL: http://www.infineon.com/dgdl/Datasheet_ICE3xxx65Lv2_0_8May06.pdf?folderId=db3a304412b407950112b409ae510341&fileId=db3a304412b407950112b428fa4e3f69; ComponentLink3Description: Package Specification; ComponentLink3URL: http://www.infineon.com/dgdl/Datasheet_CoolSET-F3_v22_30Aug2011.pdf?folderId=db3a304412b407950112b4182a3d24f8&fileId=db3a304412b407950112b428f6ba3f30
footprint INF-PG-DIP-8_A (DIP, 8-Leads, Body 9.435x7.875mm, Pitch 2.54mm)
pins: 1 SOFTS (in) "Soft-Start", 2 FB (in) "Feedback", 3 CS (in) "Current Sense/650V1) Depl. CoolMOS(TM) Source", 4 DRAIN (power) "650V Depl. CoolMOS(TM) Drain", 5 DRAIN (power) "650V Depl. CoolMOS(TM) Drain", 6 NC "Not Connected", 7 VCC (power) "Controller Supply Voltage", 8 GND (power) "Controller Ground"

## ICE3B0565
designator U?
Off-Line SMPS Current Mode Controller with Integrated 650 V Startup Cell / Depletion CoolMOS, 8.5 to 21 V, -25 to 130 degC, PG-DIP-8, Tube, Green; Manufacturer: Infineon; PartNumber: ICE3B0565; ESD Protection (max): 3 kV; Frequency ( f ) Range: 67 kHz fixed; Green: TRUE; Green Product: Lead Free; ICC (typ): 5.6 mA; ID (max): 0.5 A; PIN (max): 12 W; RDS (on) (typ): 4.7 Ohm; RthJA (max): 90 K/W; tf (typ): 30 ns; VCC (max): 21 V; VCC (min): 8.5 V; VDS (max): 650 V; DatasheetVersion: Rev. 2.3; PackageVersion: Rev. 02, 05/2012; PackageReference: PG-DIP-8; PackageDescription: 8-Pin Plastic (Green) Dual In-Line Package, 9.44 x 6.35 mm Body, 2.54 mm Pitch; Supplier 1: Mouser; Supplier Part Number 1: 726-ICE3B0565; Supplier 2: Digi-Key; Supplier Part Number 2: ICE3B0565-ND; Packing: Tube; tr (typ): 30 ns; Mounting Technology: Through Hole; ComponentLink1Description: Manufacturer URL; ComponentLink1URL: http://www.infineon.com/; ComponentLink2Description: Datasheet; ComponentLink2URL: http://www.infineon.com/dgdl/Datasheet_CoolSET-F3_v22_30Aug2011.pdf?folderId=db3a304412b407950112b4182a3d24f8&fileId=db3a304412b407950112b428f6ba3f30; ComponentLink3Description: Package Specification; ComponentLink3URL: http://www.infineon.com/dgdl/Datasheet_CoolSET-F3_v22_30Aug2011.pdf?folderId=db3a304412b407950112b4182a3d24f8&fileId=db3a304412b407950112b428f6ba3f30
footprint INF-PG-DIP-8_A (DIP, 8-Leads, Body 9.435x7.875mm, Pitch 2.54mm)
pins: 1 SOFTS (in) "Soft-Start", 2 FB (in) "FeedBack", 3 CS (in) "Current Sense/650V Depl CoolMOS(TM) Source", 4 DRAIN (power) "650V Depl CoolMOS(TM) Drain", 5 DRAIN (power) "650V Depl CoolMOS(TM) Drain", 6 NC "Not connected", 7 VCC (power) "Controller Supply Voltage", 8 GND (power) "Controller GrouND"

## ICE3B0565J
designator U?
Off-Line SMPS Current Mode Controller with Integrated 650 V CoolMOS and Startup Cell (Frequency Jitter Mode), 10.3 to 26 V, -25 to 130 degC, PG-DIP-8, Tube, Green; Manufacturer: Infineon; PartNumber: ICE3B0565J; ESD Protection (max): 2 kV; Frequency ( f ) Range: 67 kHz fixed; Green: TRUE; Green Product: Lead Free; ICC (typ): 2.5 mA; ID (max): 0.5 A; PIN (max): 12 W; RDS (on) (typ): 4.7 Ohm; RthJA (max): 90 K/W; tf (typ): 30 ns; VCC (max): 26 V; VCC (min): 10.3 V; VDS (max): 650 V; DatasheetVersion: Rev. 2.9; PackageVersion: Rev. 02, 05/2012; PackageReference: PG-DIP-8; PackageDescription: 8-Pin Plastic (Green) Dual In-Line Package, 9.44 x 6.35 mm Body, 2.54 mm Pitch; Supplier 1: Mouser; Supplier Part Number 1: 726-ICE3B0565J; Supplier 2: Digi-Key; Supplier Part Number 2: ICE3B0565J-ND; Packing: Tube; tr (typ): 30 ns; Mounting Technology: Through Hole; ComponentLink1Description: Manufacturer URL; ComponentLink1URL: http://www.infineon.com/; ComponentLink2Description: Datasheet; ComponentLink2URL: http://www.infineon.com/dgdl/Datasheet_CoolSET-F3J_ICE3Bxx65J_v28_23Aug2012.pdf?folderId=db3a3043394427e40139530c0fe07ca3&fileId=db3a3043394427e4013953109b207cb2; ComponentLink3Description: Package Specification; ComponentLink3URL: http://www.infineon.com/dgdl/Datasheet_CoolSET-F3_v22_30Aug2011.pdf?folderId=db3a304412b407950112b4182a3d24f8&fileId=db3a304412b407950112b428f6ba3f30
footprint INF-PG-DIP-8_A (DIP, 8-Leads, Body 9.435x7.875mm, Pitch 2.54mm)
pins: 1 SOFTS (in) "Soft-Start", 2 FB (in) "FeedBack", 3 CS (in) "Current Sense/650V Depl CoolMOS(TM) Source", 4 DRAIN (power) "650V Depl CoolMOS(TM) Drain", 5 DRAIN (power) "650V Depl CoolMOS(TM) Drain", 6 NC "Not connected", 7 VCC (power) "Controller Supply Voltage", 8 GND (power) "Controller GrouND"

## ICE3B0565JG
designator U?
Off-Line SMPS Current Mode Controller with Integrated 650 V Startup Cell / Depletion CoolMOS, 10.3 to 26 V, -25 to 130 degC, PG-DSO-16/12, Reel, Green; Manufacturer: Infineon; PartNumber: ICE3B0565JG; ESD Protection (max): 2 kV; Frequency ( f ) Range: 67 kHz fixed; Green: TRUE; Green Product: Lead Free; ICC (typ): 2.5 mA; ID (max): 0.5 A; PIN (max): 12 W; RDS (on) (typ): 4.7 Ohm; RthJA (max): 110 K/W; tf (typ): 30 ns; VCC (max): 26 V; VCC (min): 10.3 V; VDS (max): 650 V; DatasheetVersion: Rev. 2.0; PackageReference: PG-DSO-16_12; PackageDescription: 16-Pin Plastic (Green) Dual Small Outline Package, 9.9 x 3.9 mm Body, 1.27 mm Pitch; Supplier 1: Mouser; Supplier Part Number 1: 726-ICE3B0565JG; Supplier 2: Digi-Key; Supplier Part Number 2: ICE3B0565JG-ND; Halogen-free: TRUE; Packing: Reel; tr (typ): 30 ns; Mounting Technology: Surface Mount; ComponentLink1Description: Manufacturer URL; ComponentLink1URL: http://www.infineon.com/; ComponentLink2Description: Datasheet; ComponentLink2URL: http://www.infineon.com/dgdl/Datasheet_CoolSET-F3JG_v2_0_14Nov2006.pdf?folderId=db3a304412b407950112b4182a3d24f8&fileId=db3a304412b407950112b428f96f3f62; ComponentLink3Description: Package Specification; ComponentLink3URL: http://www.infineon.com/dgdl/Datasheet_ICE2QR0665G_20110704_R20.pdf?folderId=db3a304412b407950112b408e8c90004&fileId=db3a304330f686060130fd2a8e477ecb
footprint INF-PG-DSO-16_12_N (SOP, 16-Leads, Body 9.9x3.9mm, Pitch 1.27mm, IPC Medium Density)
footprint INF-PG-DSO-16_12_L (SOP, 16-Leads, Body 9.9x3.9mm, Pitch 1.27mm, IPC High Density)
footprint INF-PG-DSO-16_12_M (SOP, 16-Leads, Body 9.9x3.9mm, Pitch 1.27mm, IPC Low Density)
pins: 1 NC "Not Connected", 2 SOFTS (in) "Soft-Start", 3 FB (in) "Feedback", 4 CS (in) "Current Sense/650V Depl. CoolMOS(TM) Source", 5 DRAIN (power) "650V Depl. CoolMOS(TM) Drain", 6 DRAIN (power) "650V Depl. CoolMOS(TM) Drain", 7 DRAIN (power) "650V Depl. CoolMOS(TM) Drain", 8 DRAIN (power) "650V Depl. CoolMOS(TM) Drain", 9 NC "Not Connected", 10 NC "Not Connected", 11 VCC (power) "Controller Supply Voltage", 12 GND (power) "Controller Ground"

## ICE3B1065
designator U?
Off-Line SMPS Current Mode Controller, -25 to 130 degC, PG-DIP-8, Tube, Green; Manufacturer: Infineon; PartNumber: ICE3B1065; Green: TRUE; ID (max): 1 A; PIN (max): 16 W; RDS (on) (typ): 2.95 Ohm; VCC (max): 21 V; VCC (min): 8.5 V; VDS (max): 650 V; DatasheetVersion: Rev. 2.3; PackageVersion: Rev. 02, 05/2012; PackageReference: PG-DIP-8; PackageDescription: 8-Pin Plastic (Green) Dual In-Line Package, 9.44 x 6.35 mm Body, 2.54 mm Pitch; Supplier 1: Mouser; Supplier Part Number 1: 726-ICE3B1065; Supplier 2: Digi-Key; Supplier Part Number 2: ICE3B1065-ND; Halogen-free: FALSE; Packing: Tube; Mounting Technology: Through Hole; ComponentLink1Description: Manufacturer URL; ComponentLink1URL: http://www.infineon.com/; ComponentLink2Description: Datasheet; ComponentLink2URL: http://www.infineon.com/dgdl/Datasheet_CoolSET-F3_v22_30Aug2011.pdf?folderId=db3a304412b407950112b4182a3d24f8&fileId=db3a304412b407950112b428f6ba3f30; ComponentLink3Description: Package Specification; ComponentLink3URL: http://www.infineon.com/dgdl/Datasheet_CoolSET-F3_v22_30Aug2011.pdf?folderId=db3a304412b407950112b4182a3d24f8&fileId=db3a304412b407950112b428f6ba3f30
footprint INF-PG-DIP-8_A (DIP, 8-Leads, Body 9.435x7.875mm, Pitch 2.54mm)
pins: 1 SOFTS (in) "Soft-Start", 2 FB (in) "Feedback", 3 CS (in) "Current Sense/650V1) Depl. CoolMOS(TM) Source", 4 DRAIN (power) "650V1) Depl. CoolMOS(TM) Drain", 5 DRAIN (power) "650V1) Depl. CoolMOS(TM) Drain", 6 NC "Not Connected", 7 VCC (power) "Controller Supply Voltage", 8 GND (power) "Controller Ground"

## ICE3B1565
designator U?
Off-Line SMPS Current Mode Controller, -25 to 130 degC, PG-DIP-8, Tube, Green; Manufacturer: Infineon; PartNumber: ICE3B1565; Green: TRUE; ID (max): 1.5 A; PIN (max): 20 W; RDS (on) (typ): 1.7 Ohm; VCC (max): 21 V; VCC (min): 8.5 V; VDS (max): 650 V; DatasheetVersion: Rev. 2.3; PackageVersion: Rev. 02, 05/2012; PackageReference: PG-DIP-8; PackageDescription: 8-Pin Plastic (Green) Dual In-Line Package, 9.44 x 6.35 mm Body, 2.54 mm Pitch; Supplier 1: Mouser; Supplier Part Number 1: 726-ICE3B1565; Supplier 2: Digi-Key; Supplier Part Number 2: ICE3B1565-ND; Halogen-free: FLASE; Packing: Tube; Mounting Technology: Through Hole; ComponentLink1Description: Manufacturer URL; ComponentLink1URL: http://www.infineon.com/; ComponentLink2Description: Datasheet; ComponentLink2URL: http://www.infineon.com/dgdl/Datasheet_CoolSET-F3_v22_30Aug2011.pdf?folderId=db3a304412b407950112b4182a3d24f8&fileId=db3a304412b407950112b428f6ba3f30; ComponentLink3Description: Package Specification; ComponentLink3URL: http://www.infineon.com/dgdl/Datasheet_CoolSET-F3_v22_30Aug2011.pdf?folderId=db3a304412b407950112b4182a3d24f8&fileId=db3a304412b407950112b428f6ba3f30
footprint INF-PG-DIP-8_A (DIP, 8-Leads, Body 9.435x7.875mm, Pitch 2.54mm)
pins: 1 SOFTS (in) "Soft-Start", 2 FB (in) "Feedback", 3 CS (in) "Current Sense/650V1) Depl. CoolMOS(TM) Source", 4 DRAIN (power) "650V1) Depl. CoolMOS(TM) Drain", 5 DRAIN (power) "650V1) Depl. CoolMOS(TM) Drain", 6 NC "Not Connected", 7 VCC (power) "Controller Supply Voltage", 8 GND (power) "Controller Ground"

## ICE3B1565J
designator U?
Off-Line SMPS Current Mode Controller with Integrated 650 V CoolMOS and Startup Cell (Frequency Jitter Mode), 10.3 to 26 V, -25 to 130 degC, PG-DIP-8, Tube, Green; Manufacturer: Infineon; PartNumber: ICE3B1565J; ESD Protection (max): 2 kV; Frequency ( f ) Range: 67 kHz fixed; Green: TRUE; Green Product: Lead Free; ICC (typ): 2.5 mA; ID (max): 1.5 A; PIN (max): 20 W; RDS (on) (typ): 1.7 Ohm; RthJA (max): 90 K/W; tf (typ): 30 ns; VCC (max): 26 V; VCC (min): 10.3 V; VDS (max): 650 V; DatasheetVersion: Rev. 2.9; PackageVersion: Rev. 02, 05/2012; PackageReference: PG-DIP-8; PackageDescription: 8-Pin Plastic (Green) Dual In-Line Package, 9.44 x 6.35 mm Body, 2.54 mm Pitch; Supplier 1: Mouser; Supplier Part Number 1: 726-ICE3B1565J; Supplier 2: Digi-Key; Supplier Part Number 2: ICE3B1565J-ND; Packing: Tube; tr (typ): 30 ns; Mounting Technology: Through Hole; ComponentLink1Description: Manufacturer URL; ComponentLink1URL: http://www.infineon.com/; ComponentLink2Description: Datasheet; ComponentLink2URL: http://www.infineon.com/dgdl/Datasheet_CoolSET-F3J_ICE3Bxx65J_v28_23Aug2012.pdf?folderId=db3a3043394427e40139530c0fe07ca3&fileId=db3a3043394427e4013953109b207cb2; ComponentLink3Description: Package Specification; ComponentLink3URL: http://www.infineon.com/dgdl/Datasheet_CoolSET-F3_v22_30Aug2011.pdf?folderId=db3a304412b407950112b4182a3d24f8&fileId=db3a304412b407950112b428f6ba3f30
footprint INF-PG-DIP-8_A (DIP, 8-Leads, Body 9.435x7.875mm, Pitch 2.54mm)
pins: 1 SOFTS (in) "Soft-Start", 2 FB (in) "FeedBack", 3 CS (in) "Current Sense/650V Depl CoolMOS(TM) Source", 4 DRAIN (power) "650V Depl CoolMOS(TM) Drain", 5 DRAIN (power) "650V Depl CoolMOS(TM) Drain", 6 NC "Not connected", 7 VCC (power) "Controller Supply Voltage", 8 GND (power) "Controller GrouND"

## ICE3B2065
designator U?
Off-Line SMPS Current Mode Controller, -25 to 130 degC, PG-DIP-8, Tube, Green; Manufacturer: Infineon; PartNumber: ICE3B2065; Green: TRUE; ID (max): 2 A; PIN (max): 28 W; RDS (on) (typ): 0.92 Ohm; VCC (max): 21 V; VCC (min): 8.5 V; VDS (max): 650 V; DatasheetVersion: Rev. 2.3; PackageVersion: Rev. 02, 05/2012; PackageReference: PG-DIP-8; PackageDescription: 8-Pin Plastic (Green) Dual In-Line Package, 9.44 x 6.35 mm Body, 2.54 mm Pitch; Supplier 1: Mouser; Supplier Part Number 1: 726-ICE3B2065; Supplier 2: Digi-Key; Supplier Part Number 2: ICE3B2065-ND; Halogen-free: FALSE; Packing: Tube; Mounting Technology: Through Hole; ComponentLink1Description: Manufacturer URL; ComponentLink1URL: http://www.infineon.com/; ComponentLink2Description: Datasheet; ComponentLink2URL: http://www.infineon.com/dgdl/Datasheet_CoolSET-F3_v22_30Aug2011.pdf?folderId=db3a304412b407950112b4182a3d24f8&fileId=db3a304412b407950112b428f6ba3f30; ComponentLink3Description: Package Specification; ComponentLink3URL: http://www.infineon.com/dgdl/Datasheet_CoolSET-F3_v22_30Aug2011.pdf?folderId=db3a304412b407950112b4182a3d24f8&fileId=db3a304412b407950112b428f6ba3f30
footprint INF-PG-DIP-8_A (DIP, 8-Leads, Body 9.435x7.875mm, Pitch 2.54mm)
pins: 1 SOFTS (in) "Soft-Start", 2 FB (in) "Feedback", 3 CS (in) "Current Sense/650V1) Depl. CoolMOS(TM) Source", 4 DRAIN (power) "650V1) Depl. CoolMOS(TM) Drain", 5 DRAIN (power) "650V1) Depl. CoolMOS(TM) Drain", 6 NC "Not Connected", 7 VCC (power) "Controller Supply Voltage", 8 GND (power) "Controller Ground"

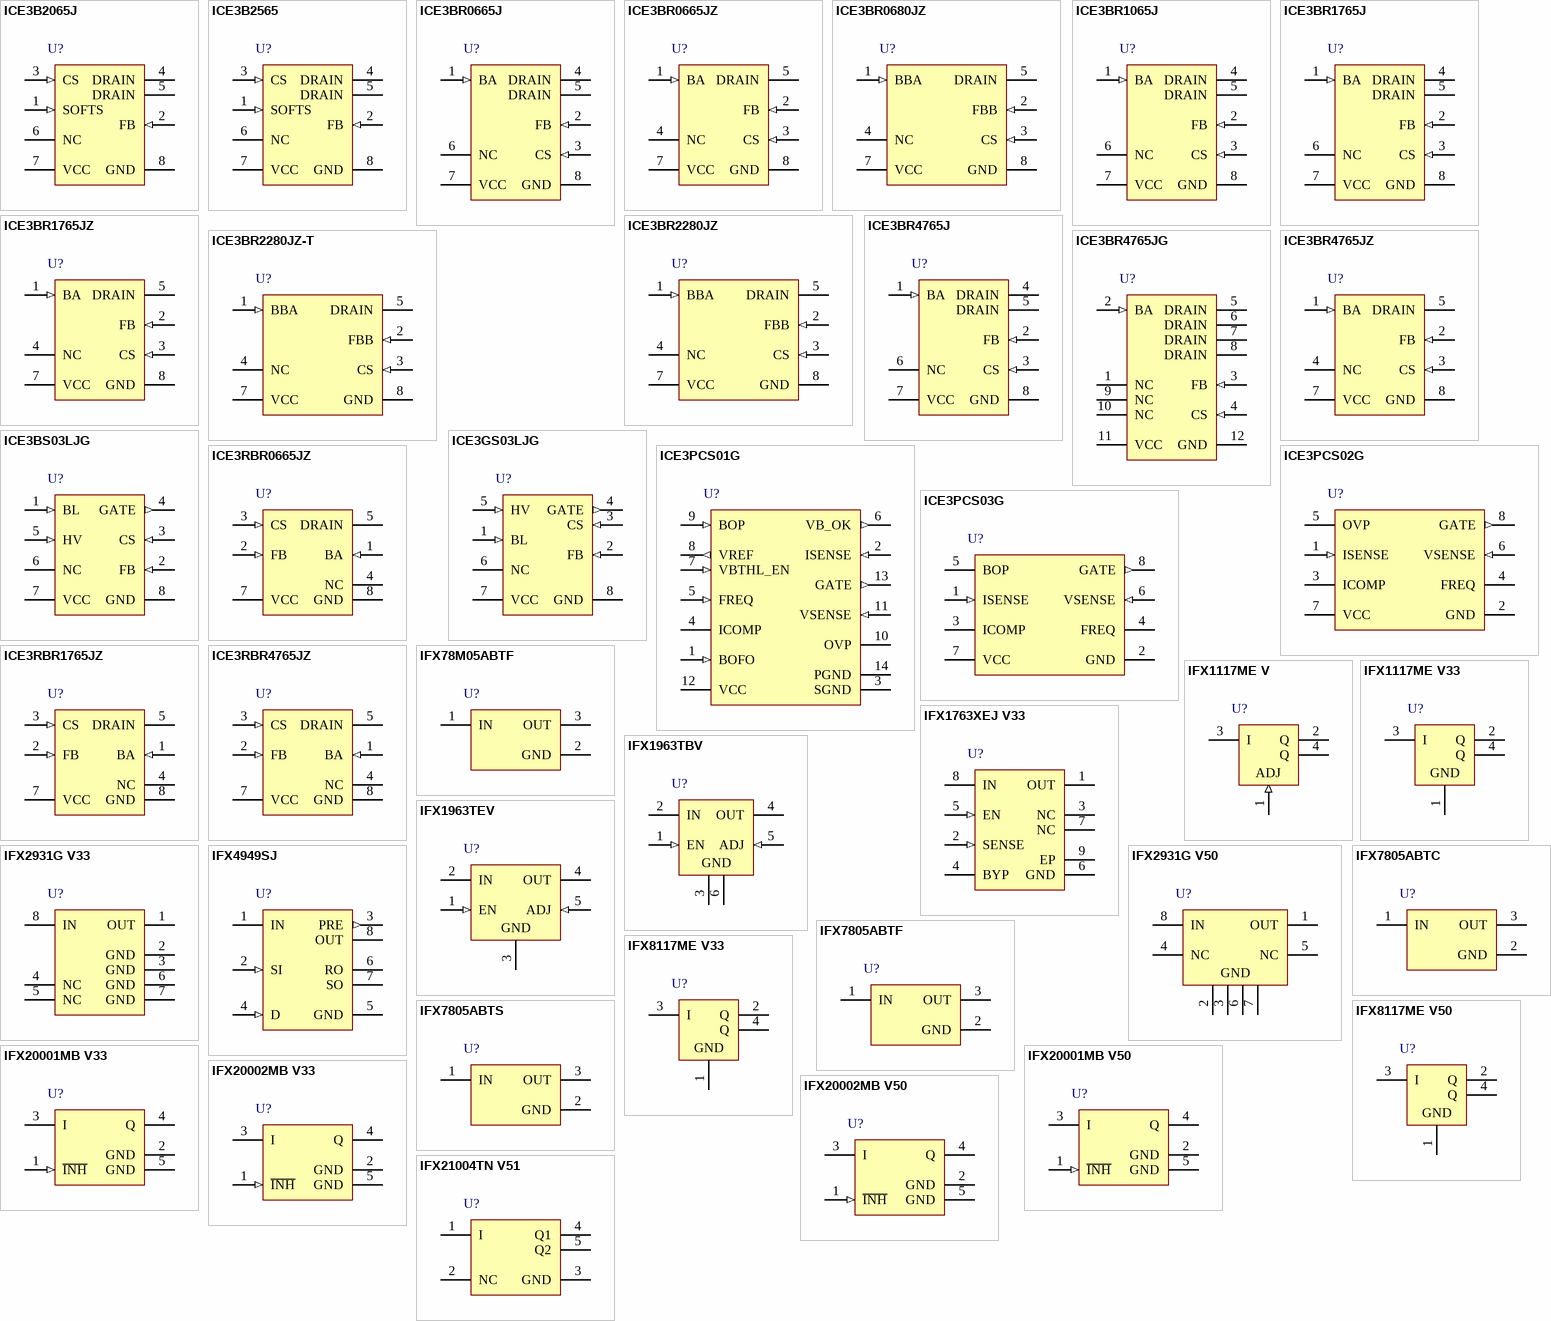
[diagram p2: symbols ICE3B2065J to IFX21004TN V51]

## ICE3B2065J
designator U?
Off-Line SMPS Current Mode Controller with Integrated 650 V CoolMOS and Startup Cell (Frequency Jitter Mode), 10.3 to 26 V, -25 to 130 degC, PG-DIP-8, Tube, Green; Manufacturer: Infineon; PartNumber: ICE3B2065J; ESD Protection (max): 2 kV; Frequency ( f ) Range: 67 kHz fixed; Green: TRUE; Green Product: Lead Free; ICC (typ): 3.3 mA; ID (max): 2 A; PIN (max): 28 W; RDS (on) (typ): 0.92 Ohm; RthJA (max): 90 K/W; tf (typ): 30 ns; VCC (max): 26 V; VCC (min): 10.3 V; VDS (max): 650 V; DatasheetVersion: Rev. 2.9; PackageVersion: Rev. 02, 05/2012; PackageReference: PG-DIP-8; PackageDescription: 8-Pin Plastic (Green) Dual In-Line Package, 9.44 x 6.35 mm Body, 2.54 mm Pitch; Supplier 1: Mouser; Supplier Part Number 1: 726-ICE3B2065J; Supplier 2: Digi-Key; Supplier Part Number 2: ICE3B2065J-ND; tr (typ): 30 ns; Mounting Technology: Through Hole; ComponentLink1Description: Manufacturer URL; ComponentLink1URL: http://www.infineon.com/; ComponentLink2Description: Datasheet; ComponentLink2URL: http://www.infineon.com/dgdl/Datasheet_CoolSET-F3J_ICE3Bxx65J_v28_23Aug2012.pdf?folderId=db3a3043394427e40139530c0fe07ca3&fileId=db3a3043394427e4013953109b207cb2; ComponentLink3Description: Package Specification; ComponentLink3URL: http://www.infineon.com/dgdl/Datasheet_CoolSET-F3_v22_30Aug2011.pdf?folderId=db3a304412b407950112b4182a3d24f8&fileId=db3a304412b407950112b428f6ba3f30
footprint INF-PG-DIP-8_A (DIP, 8-Leads, Body 9.435x7.875mm, Pitch 2.54mm)
pins: 1 SOFTS (in) "Soft-Start", 2 FB (in) "FeedBack", 3 CS (in) "Current Sense/650V Depl CoolMOS(TM) Source", 4 DRAIN (power) "650V Depl CoolMOS(TM) Drain", 5 DRAIN (power) "650V Depl CoolMOS(TM) Drain", 6 NC "Not connected", 7 VCC (power) "Controller Supply Voltage", 8 GND (power) "Controller GrouND"

## ICE3B2565
designator U?
Off-Line SMPS Current Mode Controller, -25 to 130 degC, PG-DIP-8, Tube, Green; Manufacturer: Infineon; PartNumber: ICE3B2565; Green: TRUE; ID (max): 2.5 A; PIN (max): 33 W; RDS (on) (typ): 0.65 Ohm; VCC (max): 21 V; VCC (min): 8.5 V; VDS (max): 650 V; DatasheetVersion: Rev. 2.3; PackageVersion: Rev. 02, 05/2012; PackageReference: PG-DIP-8; PackageDescription: 8-Pin Plastic (Green) Dual In-Line Package, 9.44 x 6.35 mm Body, 2.54 mm Pitch; Supplier 1: Mouser; Supplier Part Number 1: 726-ICE3B2565; Supplier 2: Digi-Key; Supplier Part Number 2: ICE3B2565-ND; Halogen-free: FALSE; Packing: Tube; Mounting Technology: Through Hole; ComponentLink1Description: Manufacturer URL; ComponentLink1URL: http://www.infineon.com/; ComponentLink2Description: Datasheet; ComponentLink2URL: http://www.infineon.com/dgdl/Datasheet_CoolSET-F3_v22_30Aug2011.pdf?folderId=db3a304412b407950112b4182a3d24f8&fileId=db3a304412b407950112b428f6ba3f30; ComponentLink3Description: Package Specification; ComponentLink3URL: http://www.infineon.com/dgdl/Datasheet_CoolSET-F3_v22_30Aug2011.pdf?folderId=db3a304412b407950112b4182a3d24f8&fileId=db3a304412b407950112b428f6ba3f30
footprint INF-PG-DIP-8_A (DIP, 8-Leads, Body 9.435x7.875mm, Pitch 2.54mm)
pins: 1 SOFTS (in) "Soft-Start", 2 FB (in) "Feedback", 3 CS (in) "Current Sense/650V1) Depl. CoolMOS(TM) Source", 4 DRAIN (power) "650V1) Depl. CoolMOS(TM) Drain", 5 DRAIN (power) "650V1) Depl. CoolMOS(TM) Drain", 6 NC "Not Connected", 7 VCC (power) "Controller Supply Voltage", 8 GND (power) "Controller Ground"

## ICE3BR0665J
designator U?
Off-Line SMPS Current Mode Controller with Integrated 650 V CoolMOS and Startup Cell (Frequency Jitter Mode), 10.5 to 25 V, -25 to 130 degC, PG-DIP-8, Tube, Green; Manufacturer: Infineon; PartNumber: ICE3BR0665J; ESD Protection (max): 2 kV; Frequency ( f ) Range: 65 kHz fixed; Green: TRUE; Green Product: Lead Free; ICC (typ): 3.8 mA; ID (max): 2.5 A; PIN (max): 49 W; RDS (on) (typ): 0.65 Ohm; RthJA (max): 90 K/W; tf (typ): 30 ns; VCC (max): 25 V; VCC (min): 10.5 V; VDS (max): 650 V; DatasheetVersion: Rev. 2.3; PackageVersion: Rev. 02, 05/2012; PackageReference: PG-DIP-8; PackageDescription: 8-Pin Plastic (Green) Dual In-Line Package, 9.44 x 6.35 mm Body, 2.54 mm Pitch; Supplier 1: Mouser; Supplier Part Number 1: 726-ICE3BR0665J; Supplier 2: Digi-Key; Supplier Part Number 2: ICE3BR0665J-ND; tr (typ): 30 ns; Mounting Technology: Through Hole; ComponentLink1Description: Manufacturer URL; ComponentLink1URL: http://www.infineon.com/; ComponentLink2Description: Datasheet; ComponentLink2URL: http://www.infineon.com/dgdl/Datasheet_ICE3BR0665J_v2_2_4Jul2011.pdf?folderId=db3a304412b407950112b408e8c90004&fileId=db3a30431a5c32f2011a7a6233036886; ComponentLink3Description: Package Specification; ComponentLink3URL: http://www.infineon.com/dgdl/Datasheet_CoolSET-F3_v22_30Aug2011.pdf?folderId=db3a304412b407950112b4182a3d24f8&fileId=db3a304412b407950112b428f6ba3f30
footprint INF-PG-DIP-8_A (DIP, 8-Leads, Body 9.435x7.875mm, Pitch 2.54mm)
pins: 1 BA (in) "extended Blanking & Auto-restart", 2 FB (in) "FeedBack", 3 CS (in) "Current Sense/650V CoolMOS(R) Source", 4 DRAIN (power) "650V CoolMOS(R) Drain", 5 DRAIN (power) "650V CoolMOS(R) Drain", 6 NC "Not connected", 7 VCC (power) "Controller Supply Voltage", 8 GND (power) "Controller GrouND"

## ICE3BR0665JZ
designator U?
Off-Line SMPS Current Mode Controller with Integrated 650 V, 10.5 to 25 V, -25 to 130 degC, PG-DIP-7-1, Tube, Green; Manufacturer: Infineon; PartNumber: ICE3BR0665JZ; ESD Protection (max): 2 kV; Frequency ( f ) Range: 65 kHz; Green: TRUE; Green Product: Lead Free; ICC (typ): 3.8 mA; ID (max): 2.5 A; PIN (max): 47 W; RDS (on) (typ): 0.65 Ohm; RthJA (max): 96 K/W; tf (typ): 30 ns; VCC (max): 25 V; VCC (min): 10.5 V; VDS (max): 650 V; DatasheetVersion: Rev. 2.1; PackageVersion: Rev. 02, 07/2011; PackageReference: PG-DIP-7-1; PackageDescription: 7-Pin Plastic (Green) Dual In-Line Package, 9.44 x 6.35 mm Body, 2.54 mm Pitch; Supplier 1: Mouser; Supplier Part Number 1: 726-ICE3BR0665JZ; tr (typ): 30 ns; Mounting Technology: Through Hole; ComponentLink1Description: Manufacturer URL; ComponentLink1URL: http://www.infineon.com/; ComponentLink2Description: Datasheet; ComponentLink2URL: http://www.infineon.com/dgdl/Datasheet_ICE3BR0665JZ_V21_29Aug2011.pdf?folderId=db3a304412b407950112b4182a3d24f8&fileId=db3a3043243b5f170124ec0a674a519e; ComponentLink3Description: Package Specification; ComponentLink3URL: http://www.infineon.com/dgdl/Datasheet_ICE3BR0680JZ_V21a_11Jan2012.pdf?folderId=db3a30431f848401011fcbf221ff04c3&fileId=db3a304329a0f6ee0129e8b5bf735b64
footprint INF-PG-DIP-7-1_A (DIP, 7-Leads, Body 9.44x6.35mm, Pitch 2.54mm)
pins: 1 BA (in) "Brownout, extended Blanking time & Auto-restart enable", 2 FB (in) "Feedback & Burst entry/exit control", 3 CS (in) "Current Sense/ xxxV CoolMOS(R) Source", 4 NC "not connected", 5 DRAIN (power) "xxxV CoolMOS(R) Drain", 7 VCC (power) "Controller Supply Voltage", 8 GND (power) "Controller Ground"

## ICE3BR0680JZ
designator U?
Off-Line SMPS Current Mode Controller with Integrated 800 V CoolMOS and Startup Cell (Brownout & Frequency Jitter), 10.5 to 25 V, -25 to 130 degC, PG-DIP-7-1, Tube, Green; Manufacturer: Infineon; PartNumber: ICE3BR0680JZ; ESD Protection (max): 2 kV; Frequency ( f ) Range: 65 kHz (fixed); Green: TRUE; Green Product: Lead Free; ICC (typ): 4.4 mA; ID (max): 4 A; PIN (max): 52 W; RDS (on) (typ): 0.62 Ohm; RthJA (max): 96 K/W; tf (typ): 30 ns; VCC (max): 25 V; VCC (min): 10.5 V; VDS (max): 800 V; DatasheetVersion: Rev. 2.1a; PackageVersion: Rev. 02, 07/2011; PackageReference: PG-DIP-7-1; PackageDescription: 7-Pin Plastic (Green) Dual In-Line Package, 9.44 x 6.35 mm Body, 2.54 mm Pitch; Supplier 1: Mouser; Supplier Part Number 1: 726-ICE3BR0680JZ; Halogen-free: TRUE; tr (typ): 30 ns; Mounting Technology: Through Hole; ComponentLink1Description: Manufacturer URL; ComponentLink1URL: http://www.infineon.com/; ComponentLink2Description: Datasheet; ComponentLink2URL: http://www.infineon.com/dgdl/Datasheet_ICE3BR0680JZ_V21a_11Jan2012.pdf?folderId=db3a30431f848401011fcbf221ff04c3&fileId=db3a304329a0f6ee0129e8b5bf735b64; ComponentLink3Description: Package Specification; ComponentLink3URL: http://www.infineon.com/dgdl/Datasheet_ICE3BR0680JZ_V21a_11Jan2012.pdf?folderId=db3a30431f848401011fcbf221ff04c3&fileId=db3a304329a0f6ee0129e8b5bf735b64
footprint INF-PG-DIP-7-1_A (DIP, 7-Leads, Body 9.44x6.35mm, Pitch 2.54mm)
pins: 1 BBA (in) "Brownout, extended Blanking time & Auto-restart enable", 2 FBB (in) "Feedback & Burst entry/exit control", 3 CS (in) "Current Sense/800V CoolMOS(R) Source", 4 NC "not connected", 5 DRAIN (power) "800V CoolMOS(R) Drain", 7 VCC (power) "Controller Supply Voltage", 8 GND (power) "Controller Ground"

## ICE3BR1065J
designator U?
Off-Line SMPS Current Mode Controller with Integrated 650 V CoolMOS and Startup Cell (Frequency Jitter Mode), 10.5 to 25 V, -25 to 130 degC, PG-DIP-8, Tube, Green; Manufacturer: Infineon; PartNumber: ICE3BR1065J; ESD Protection (max): 2 kV; Frequency ( f ) Range: 65 kHz fixed; Green Product: Lead Free; ICC (typ): 3.8 mA; ID (max): 2 A; PIN (max): 41 W; RDS (on) (typ): 0.92 Ohm; RthJA (max): 90 K/W; tf (typ): 30 ns; VCC (max): 25 V; VCC (min): 10.5 V; VDS (max): 650 V; DatasheetVersion: Rev. 2.1; PackageVersion: Rev. 02, 05/2012; PackageReference: PG-DIP-8; PackageDescription: 8-Pin Plastic (Green) Dual In-Line Package, 9.44 x 6.35 mm Body, 2.54 mm Pitch; tr (typ): 30 ns; Mounting Technology: Through Hole; ComponentLink1Description: Manufacturer URL; ComponentLink1URL: http://www.infineon.com/; ComponentLink2Description: Datasheet; ComponentLink2URL: http://www.infineon.com/dgdl/Datasheet_ICE3BR1065J_v20_28Dec2011.pdf?folderId=db3a30431f848401011fcbf221ff04c3&fileId=db3a3043345a30bc0134843c3573036c; ComponentLink3Description: Package Specification; ComponentLink3URL: http://www.infineon.com/dgdl/Datasheet_CoolSET-F3_v22_30Aug2011.pdf?folderId=db3a304412b407950112b4182a3d24f8&fileId=db3a304412b407950112b428f6ba3f30
footprint INF-PG-DIP-8_A (DIP, 8-Leads, Body 9.435x7.875mm, Pitch 2.54mm)
pins: 1 BA (in) "extended Blanking & Auto-restart", 2 FB (in) "FeedBack", 3 CS (in) "Current Sense/650V CoolMOS(R) Source", 4 DRAIN (power) "650V CoolMOS(R) Drain", 5 DRAIN (power) "650V CoolMOS(R) Drain", 6 NC "Not connected", 7 VCC (power) "Controller Supply Voltage", 8 GND (power) "Controller GrouND"